# Altium integrated library ST Microcontroller 8-Bit.IntLib: 1326 symbols (part 3 of 45)
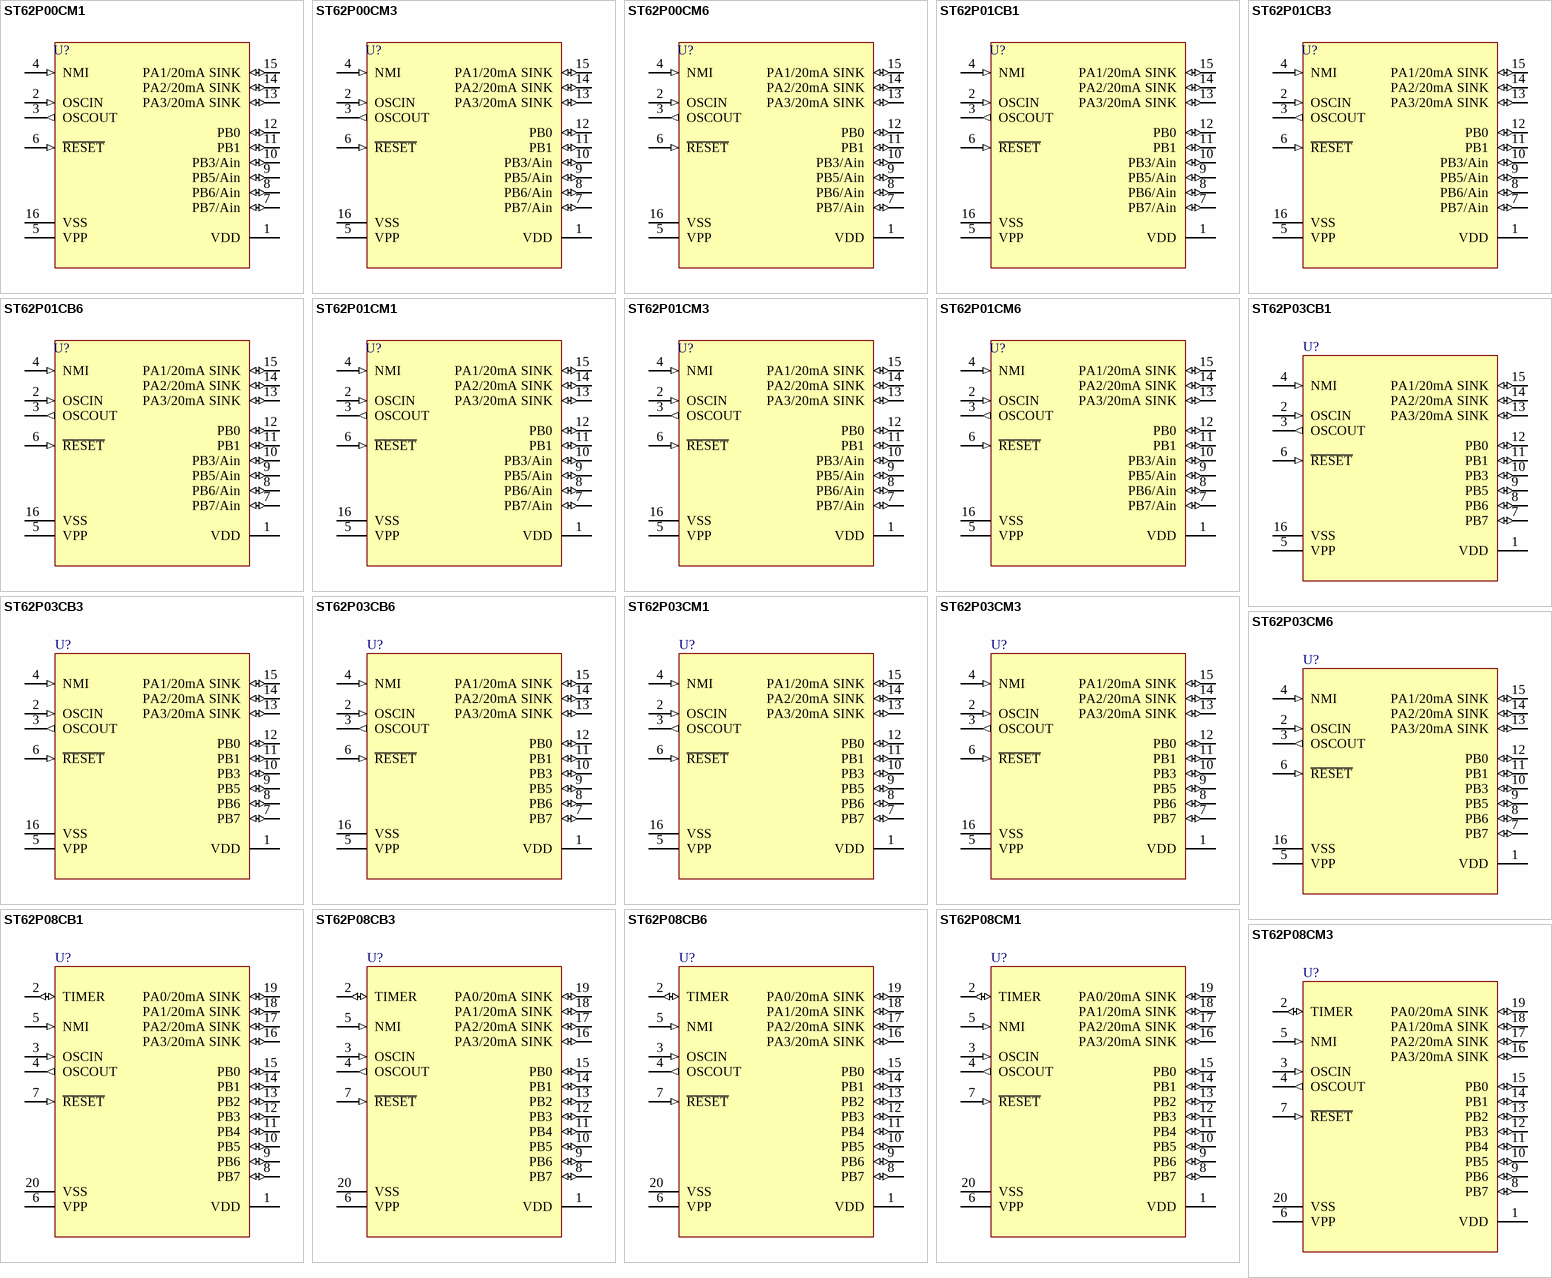
[diagram p169: symbols ST62P00CM1 to ST62P08CM3]

## ST62P01CB6
designator U?
8-Bit FASTROM MCU with A/D Converter, Two Timers, Oscillator Safeguard and Safe Reset, 16-Pin PDIP, Industrial; Published: 26-May-2004; LatestRevisionDate: 06-Jun-2005; LatestRevisionNote: Stylized 3D Model Added.; DatasheetVersion: rev3.3, Oct-2003; PackageVersion: Dec-2003; PackageReference: PDIP16; Publisher: Altium Limited; PackageDescription: DIP; 16 Leads; Row Spacing 7.62 mm; Pitch 2.54 mm; ComponentLink1Description: Manufacturer Link; ComponentLink1URL: http://www.st.com/; ComponentLink2Description: Datasheet; ComponentLink2URL: http://www.st.com/stonline/products/literature/ds/4563/st6201c.pdf
footprint PDIP16 (DIP; 16 Leads; Row Spacing 7.62 mm; Pitch 2.54 mm)
3D model PDIP16 (DIP; 16 Leads; Row Spacing 7.62 mm; Pitch 2.54 mm)
pins: 1 VDD (power), 2 OSCIN (in), 3 OSCOUT (out), 4 NMI (in), 5 VPP (power), 6 ~{RESET} (in), 7 PB7/Ain (io), 8 PB6/Ain (io), 9 PB5/Ain (io), 10 PB3/Ain (io), 11 PB1 (io), 12 PB0 (io), 13 PA3/20mA SINK (io), 14 PA2/20mA SINK (io), 15 PA1/20mA SINK (io), 16 VSS (power)

## ST62P01CM1
designator U?
8-Bit FASTROM MCU with A/D Converter, Two Timers, Oscillator Safeguard and Safe Reset, 16-Pin SOIC, Standard; Published: 26-May-2004; LatestRevisionDate: 13-Apr-2006; LatestRevisionNote: IPC-7351 Footprint Added.; DatasheetVersion: rev3.3, Oct-2003; PackageVersion: Apr-1998; PackageReference: SO16W; Publisher: Altium Limited; PackageDescription: 16-Pin Small Outline Integrated Circuit 1.27 mm Pitch; Code_JEDEC: MS-013-AA; Code_IPC: SOIC127P1030-16; ComponentLink1Description: Manufacturer Link; ComponentLink1URL: http://www.st.com/; ComponentLink2Description: Datasheet; ComponentLink2URL: http://www.st.com/stonline/products/literature/ds/4563/st6201c.pdf
footprint SO16W_N (SOIC, 16-Leads, Body 10.3x7.5mm, Pitch 1.27mm, IPC Medium Density)
footprint SO16W_L (SOIC, 16-Leads, Body 10.3x7.5mm, Pitch 1.27mm, IPC High Density)
footprint SO16W_M (SOIC, 16-Leads, Body 10.3x7.5mm, Pitch 1.27mm, IPC Low Density)
3D model SO16W (16-Pin Small Outline Integrated Circuit 1.27 mm Pitch)
pins: 1 VDD (power), 2 OSCIN (in), 3 OSCOUT (out), 4 NMI (in), 5 VPP (power), 6 ~{RESET} (in), 7 PB7/Ain (io), 8 PB6/Ain (io), 9 PB5/Ain (io), 10 PB3/Ain (io), 11 PB1 (io), 12 PB0 (io), 13 PA3/20mA SINK (io), 14 PA2/20mA SINK (io), 15 PA1/20mA SINK (io), 16 VSS (power)

## ST62P01CM3
designator U?
8-Bit FASTROM MCU with A/D Converter, Two Timers, Oscillator Safeguard and Safe Reset, 16-Pin SOIC, Automotive; Published: 26-May-2004; LatestRevisionDate: 13-Apr-2006; LatestRevisionNote: IPC-7351 Footprint Added.; DatasheetVersion: rev3.3, Oct-2003; PackageVersion: Apr-1998; PackageReference: SO16W; Publisher: Altium Limited; PackageDescription: 16-Pin Small Outline Integrated Circuit 1.27 mm Pitch; Code_JEDEC: MS-013-AA; Code_IPC: SOIC127P1030-16; ComponentLink1Description: Manufacturer Link; ComponentLink1URL: http://www.st.com/; ComponentLink2Description: Datasheet; ComponentLink2URL: http://www.st.com/stonline/products/literature/ds/4563/st6201c.pdf
footprint SO16W_N (SOIC, 16-Leads, Body 10.3x7.5mm, Pitch 1.27mm, IPC Medium Density)
footprint SO16W_L (SOIC, 16-Leads, Body 10.3x7.5mm, Pitch 1.27mm, IPC High Density)
footprint SO16W_M (SOIC, 16-Leads, Body 10.3x7.5mm, Pitch 1.27mm, IPC Low Density)
3D model SO16W (16-Pin Small Outline Integrated Circuit 1.27 mm Pitch)
pins: 1 VDD (power), 2 OSCIN (in), 3 OSCOUT (out), 4 NMI (in), 5 VPP (power), 6 ~{RESET} (in), 7 PB7/Ain (io), 8 PB6/Ain (io), 9 PB5/Ain (io), 10 PB3/Ain (io), 11 PB1 (io), 12 PB0 (io), 13 PA3/20mA SINK (io), 14 PA2/20mA SINK (io), 15 PA1/20mA SINK (io), 16 VSS (power)

## ST62P01CM6
designator U?
8-Bit FASTROM MCU with A/D Converter, Two Timers, Oscillator Safeguard and Safe Reset, 16-Pin SOIC, Industrial; Published: 26-May-2004; LatestRevisionDate: 13-Apr-2006; LatestRevisionNote: IPC-7351 Footprint Added.; DatasheetVersion: rev3.3, Oct-2003; PackageVersion: Apr-1998; PackageReference: SO16W; Publisher: Altium Limited; PackageDescription: 16-Pin Small Outline Integrated Circuit 1.27 mm Pitch; Code_JEDEC: MS-013-AA; Code_IPC: SOIC127P1030-16; ComponentLink1Description: Manufacturer Link; ComponentLink1URL: http://www.st.com/; ComponentLink2Description: Datasheet; ComponentLink2URL: http://www.st.com/stonline/products/literature/ds/4563/st6201c.pdf
footprint SO16W_N (SOIC, 16-Leads, Body 10.3x7.5mm, Pitch 1.27mm, IPC Medium Density)
footprint SO16W_L (SOIC, 16-Leads, Body 10.3x7.5mm, Pitch 1.27mm, IPC High Density)
footprint SO16W_M (SOIC, 16-Leads, Body 10.3x7.5mm, Pitch 1.27mm, IPC Low Density)
3D model SO16W (16-Pin Small Outline Integrated Circuit 1.27 mm Pitch)
pins: 1 VDD (power), 2 OSCIN (in), 3 OSCOUT (out), 4 NMI (in), 5 VPP (power), 6 ~{RESET} (in), 7 PB7/Ain (io), 8 PB6/Ain (io), 9 PB5/Ain (io), 10 PB3/Ain (io), 11 PB1 (io), 12 PB0 (io), 13 PA3/20mA SINK (io), 14 PA2/20mA SINK (io), 15 PA1/20mA SINK (io), 16 VSS (power)

## ST62P03CB1
designator U?
8-Bit FASTROM MCU with A/D Converter, Two Timers, Oscillator Safeguard and Safe Reset, 16-Pin PDIP, Standard; Published: 26-May-2004; LatestRevisionDate: 06-Jun-2005; LatestRevisionNote: Stylized 3D Model Added.; DatasheetVersion: rev3.3, Oct-2003; PackageVersion: Dec-2003; PackageReference: PDIP16; Publisher: Altium Limited; PackageDescription: DIP; 16 Leads; Row Spacing 7.62 mm; Pitch 2.54 mm; ComponentLink1Description: Manufacturer Link; ComponentLink1URL: http://www.st.com/; ComponentLink2Description: Datasheet; ComponentLink2URL: http://www.st.com/stonline/products/literature/ds/4563/st6203c.pdf
footprint PDIP16 (DIP; 16 Leads; Row Spacing 7.62 mm; Pitch 2.54 mm)
3D model PDIP16 (DIP; 16 Leads; Row Spacing 7.62 mm; Pitch 2.54 mm)
pins: 1 VDD (power), 2 OSCIN (in), 3 OSCOUT (out), 4 NMI (in), 5 VPP (power), 6 ~{RESET} (in), 7 PB7 (io), 8 PB6 (io), 9 PB5 (io), 10 PB3 (io), 11 PB1 (io), 12 PB0 (io), 13 PA3/20mA SINK (io), 14 PA2/20mA SINK (io), 15 PA1/20mA SINK (io), 16 VSS (power)

## ST62P03CB3
designator U?
8-Bit FASTROM MCU with A/D Converter, Two Timers, Oscillator Safeguard and Safe Reset, 16-Pin PDIP, Automotive; Published: 26-May-2004; LatestRevisionDate: 06-Jun-2005; LatestRevisionNote: Stylized 3D Model Added.; DatasheetVersion: rev3.3, Oct-2003; PackageVersion: Dec-2003; PackageReference: PDIP16; Publisher: Altium Limited; PackageDescription: DIP; 16 Leads; Row Spacing 7.62 mm; Pitch 2.54 mm; ComponentLink1Description: Manufacturer Link; ComponentLink1URL: http://www.st.com/; ComponentLink2Description: Datasheet; ComponentLink2URL: http://www.st.com/stonline/products/literature/ds/4563/st6203c.pdf
footprint PDIP16 (DIP; 16 Leads; Row Spacing 7.62 mm; Pitch 2.54 mm)
3D model PDIP16 (DIP; 16 Leads; Row Spacing 7.62 mm; Pitch 2.54 mm)
pins: 1 VDD (power), 2 OSCIN (in), 3 OSCOUT (out), 4 NMI (in), 5 VPP (power), 6 ~{RESET} (in), 7 PB7 (io), 8 PB6 (io), 9 PB5 (io), 10 PB3 (io), 11 PB1 (io), 12 PB0 (io), 13 PA3/20mA SINK (io), 14 PA2/20mA SINK (io), 15 PA1/20mA SINK (io), 16 VSS (power)

## ST62P03CB6
designator U?
8-Bit FASTROM MCU with A/D Converter, Two Timers, Oscillator Safeguard and Safe Reset, 16-Pin PDIP, Industrial; Published: 26-May-2004; LatestRevisionDate: 06-Jun-2005; LatestRevisionNote: Stylized 3D Model Added.; DatasheetVersion: rev3.3, Oct-2003; PackageVersion: Dec-2003; PackageReference: PDIP16; Publisher: Altium Limited; PackageDescription: DIP; 16 Leads; Row Spacing 7.62 mm; Pitch 2.54 mm; ComponentLink1Description: Manufacturer Link; ComponentLink1URL: http://www.st.com/; ComponentLink2Description: Datasheet; ComponentLink2URL: http://www.st.com/stonline/products/literature/ds/4563/st6203c.pdf
footprint PDIP16 (DIP; 16 Leads; Row Spacing 7.62 mm; Pitch 2.54 mm)
3D model PDIP16 (DIP; 16 Leads; Row Spacing 7.62 mm; Pitch 2.54 mm)
pins: 1 VDD (power), 2 OSCIN (in), 3 OSCOUT (out), 4 NMI (in), 5 VPP (power), 6 ~{RESET} (in), 7 PB7 (io), 8 PB6 (io), 9 PB5 (io), 10 PB3 (io), 11 PB1 (io), 12 PB0 (io), 13 PA3/20mA SINK (io), 14 PA2/20mA SINK (io), 15 PA1/20mA SINK (io), 16 VSS (power)

## ST62P03CM1
designator U?
8-Bit FASTROM MCU with A/D Converter, Two Timers, Oscillator Safeguard and Safe Reset, 16-Pin SOIC, Standard; Published: 26-May-2004; LatestRevisionDate: 13-Apr-2006; LatestRevisionNote: IPC-7351 Footprint Added.; DatasheetVersion: rev3.3, Oct-2003; PackageVersion: Apr-1998; PackageReference: SO16W; Publisher: Altium Limited; PackageDescription: 16-Pin Small Outline Integrated Circuit 1.27 mm Pitch; Code_JEDEC: MS-013-AA; Code_IPC: SOIC127P1030-16; ComponentLink1Description: Manufacturer Link; ComponentLink1URL: http://www.st.com/; ComponentLink2Description: Datasheet; ComponentLink2URL: http://www.st.com/stonline/products/literature/ds/4563/st6203c.pdf
footprint SO16W_N (SOIC, 16-Leads, Body 10.3x7.5mm, Pitch 1.27mm, IPC Medium Density)
footprint SO16W_L (SOIC, 16-Leads, Body 10.3x7.5mm, Pitch 1.27mm, IPC High Density)
footprint SO16W_M (SOIC, 16-Leads, Body 10.3x7.5mm, Pitch 1.27mm, IPC Low Density)
3D model SO16W (16-Pin Small Outline Integrated Circuit 1.27 mm Pitch)
pins: 1 VDD (power), 2 OSCIN (in), 3 OSCOUT (out), 4 NMI (in), 5 VPP (power), 6 ~{RESET} (in), 7 PB7 (io), 8 PB6 (io), 9 PB5 (io), 10 PB3 (io), 11 PB1 (io), 12 PB0 (io), 13 PA3/20mA SINK (io), 14 PA2/20mA SINK (io), 15 PA1/20mA SINK (io), 16 VSS (power)

## ST62P03CM3
designator U?
8-Bit FASTROM MCU with A/D Converter, Two Timers, Oscillator Safeguard and Safe Reset, 16-Pin SOIC, Automotive; Published: 26-May-2004; LatestRevisionDate: 13-Apr-2006; LatestRevisionNote: IPC-7351 Footprint Added.; DatasheetVersion: rev3.3, Oct-2003; PackageVersion: Apr-1998; PackageReference: SO16W; Publisher: Altium Limited; PackageDescription: 16-Pin Small Outline Integrated Circuit 1.27 mm Pitch; Code_JEDEC: MS-013-AA; Code_IPC: SOIC127P1030-16; ComponentLink1Description: Manufacturer Link; ComponentLink1URL: http://www.st.com/; ComponentLink2Description: Datasheet; ComponentLink2URL: http://www.st.com/stonline/products/literature/ds/4563/st6203c.pdf
footprint SO16W_N (SOIC, 16-Leads, Body 10.3x7.5mm, Pitch 1.27mm, IPC Medium Density)
footprint SO16W_L (SOIC, 16-Leads, Body 10.3x7.5mm, Pitch 1.27mm, IPC High Density)
footprint SO16W_M (SOIC, 16-Leads, Body 10.3x7.5mm, Pitch 1.27mm, IPC Low Density)
3D model SO16W (16-Pin Small Outline Integrated Circuit 1.27 mm Pitch)
pins: 1 VDD (power), 2 OSCIN (in), 3 OSCOUT (out), 4 NMI (in), 5 VPP (power), 6 ~{RESET} (in), 7 PB7 (io), 8 PB6 (io), 9 PB5 (io), 10 PB3 (io), 11 PB1 (io), 12 PB0 (io), 13 PA3/20mA SINK (io), 14 PA2/20mA SINK (io), 15 PA1/20mA SINK (io), 16 VSS (power)

## ST62P03CM6
designator U?
8-Bit FASTROM MCU with A/D Converter, Two Timers, Oscillator Safeguard and Safe Reset, 16-Pin SOIC, Industrial; Published: 26-May-2004; LatestRevisionDate: 13-Apr-2006; LatestRevisionNote: IPC-7351 Footprint Added.; DatasheetVersion: rev3.3, Oct-2003; PackageVersion: Apr-1998; PackageReference: SO16W; Publisher: Altium Limited; PackageDescription: 16-Pin Small Outline Integrated Circuit 1.27 mm Pitch; Code_JEDEC: MS-013-AA; Code_IPC: SOIC127P1030-16; ComponentLink1Description: Manufacturer Link; ComponentLink1URL: http://www.st.com/; ComponentLink2Description: Datasheet; ComponentLink2URL: http://www.st.com/stonline/products/literature/ds/4563/st6203c.pdf
footprint SO16W_N (SOIC, 16-Leads, Body 10.3x7.5mm, Pitch 1.27mm, IPC Medium Density)
footprint SO16W_L (SOIC, 16-Leads, Body 10.3x7.5mm, Pitch 1.27mm, IPC High Density)
footprint SO16W_M (SOIC, 16-Leads, Body 10.3x7.5mm, Pitch 1.27mm, IPC Low Density)
3D model SO16W (16-Pin Small Outline Integrated Circuit 1.27 mm Pitch)
pins: 1 VDD (power), 2 OSCIN (in), 3 OSCOUT (out), 4 NMI (in), 5 VPP (power), 6 ~{RESET} (in), 7 PB7 (io), 8 PB6 (io), 9 PB5 (io), 10 PB3 (io), 11 PB1 (io), 12 PB0 (io), 13 PA3/20mA SINK (io), 14 PA2/20mA SINK (io), 15 PA1/20mA SINK (io), 16 VSS (power)

## ST62P08CB1
designator U?
8-Bit FASTROM MCU with A/D Converter, Two Timers, Oscillator Safeguard and Safe Reset, 20-Pin PDIP, Standard; Published: 26-May-2004; LatestRevisionDate: 06-Jun-2005; LatestRevisionNote: Stylized 3D Model Added.; DatasheetVersion: rev3.3, Oct-2003; PackageVersion: Jul-2003; PackageReference: PDIP20; Publisher: Altium Limited; PackageDescription: DIP; 20 Leads; Row Spacing 7.62 mm; Pitch 2.54 mm; Code_JEDEC: MS-001-AD; ComponentLink1Description: Manufacturer Link; ComponentLink1URL: http://www.st.com/; ComponentLink2Description: Datasheet; ComponentLink2URL: http://www.st.com/stonline/products/literature/ds/2349/st6208c.pdf
footprint PDIP20 (DIP; 20 Leads; Row Spacing 7.62 mm; Pitch 2.54 mm)
3D model PDIP20 (DIP; 20 Leads; Row Spacing 7.62 mm; Pitch 2.54 mm)
pins: 1 VDD (power), 2 TIMER (io), 3 OSCIN (in), 4 OSCOUT (out), 5 NMI (in), 6 VPP (power), 7 ~{RESET} (in), 8 PB7 (io), 9 PB6 (io), 10 PB5 (io), 11 PB4 (io), 12 PB3 (io), 13 PB2 (io), 14 PB1 (io), 15 PB0 (io), 16 PA3/20mA SINK (io), 17 PA2/20mA SINK (io), 18 PA1/20mA SINK (io), 19 PA0/20mA SINK (io), 20 VSS (power)

## ST62P08CB3
designator U?
8-Bit FASTROM MCU with A/D Converter, Two Timers, Oscillator Safeguard and Safe Reset, 20-Pin PDIP, Automotive; Published: 26-May-2004; LatestRevisionDate: 06-Jun-2005; LatestRevisionNote: Stylized 3D Model Added.; DatasheetVersion: rev3.3, Oct-2003; PackageVersion: Jul-2003; PackageReference: PDIP20; Publisher: Altium Limited; PackageDescription: DIP; 20 Leads; Row Spacing 7.62 mm; Pitch 2.54 mm; Code_JEDEC: MS-001-AD; ComponentLink1Description: Manufacturer Link; ComponentLink1URL: http://www.st.com/; ComponentLink2Description: Datasheet; ComponentLink2URL: http://www.st.com/stonline/products/literature/ds/2349/st6208c.pdf
footprint PDIP20 (DIP; 20 Leads; Row Spacing 7.62 mm; Pitch 2.54 mm)
3D model PDIP20 (DIP; 20 Leads; Row Spacing 7.62 mm; Pitch 2.54 mm)
pins: 1 VDD (power), 2 TIMER (io), 3 OSCIN (in), 4 OSCOUT (out), 5 NMI (in), 6 VPP (power), 7 ~{RESET} (in), 8 PB7 (io), 9 PB6 (io), 10 PB5 (io), 11 PB4 (io), 12 PB3 (io), 13 PB2 (io), 14 PB1 (io), 15 PB0 (io), 16 PA3/20mA SINK (io), 17 PA2/20mA SINK (io), 18 PA1/20mA SINK (io), 19 PA0/20mA SINK (io), 20 VSS (power)

## ST62P08CB6
designator U?
8-Bit FASTROM MCU with A/D Converter, Two Timers, Oscillator Safeguard and Safe Reset, 20-Pin PDIP, Industrial; Published: 26-May-2004; LatestRevisionDate: 06-Jun-2005; LatestRevisionNote: Stylized 3D Model Added.; DatasheetVersion: rev3.3, Oct-2003; PackageVersion: Jul-2003; PackageReference: PDIP20; Publisher: Altium Limited; PackageDescription: DIP; 20 Leads; Row Spacing 7.62 mm; Pitch 2.54 mm; Code_JEDEC: MS-001-AD; ComponentLink1Description: Manufacturer Link; ComponentLink1URL: http://www.st.com/; ComponentLink2Description: Datasheet; ComponentLink2URL: http://www.st.com/stonline/products/literature/ds/2349/st6208c.pdf
footprint PDIP20 (DIP; 20 Leads; Row Spacing 7.62 mm; Pitch 2.54 mm)
3D model PDIP20 (DIP; 20 Leads; Row Spacing 7.62 mm; Pitch 2.54 mm)
pins: 1 VDD (power), 2 TIMER (io), 3 OSCIN (in), 4 OSCOUT (out), 5 NMI (in), 6 VPP (power), 7 ~{RESET} (in), 8 PB7 (io), 9 PB6 (io), 10 PB5 (io), 11 PB4 (io), 12 PB3 (io), 13 PB2 (io), 14 PB1 (io), 15 PB0 (io), 16 PA3/20mA SINK (io), 17 PA2/20mA SINK (io), 18 PA1/20mA SINK (io), 19 PA0/20mA SINK (io), 20 VSS (power)

## ST62P08CM1
designator U?
8-Bit FASTROM MCU with A/D Converter, Two Timers, Oscillator Safeguard and Safe Reset, 20-Pin SOIC, Standard; Published: 26-May-2004; LatestRevisionDate: 13-Apr-2006; LatestRevisionNote: IPC-7351 Footprint Added.; DatasheetVersion: rev3.3, Oct-2003; PackageVersion: Jul-2001; PackageReference: SO20; Publisher: Altium Limited; PackageDescription: 20-Pin Plastic Small Outline Integrated Circuit 1.27 mm Pitch; Code_JEDEC: MS-013-AC; Code_IPC: SOIC127P1030-20; ComponentLink1Description: Manufacturer Link; ComponentLink1URL: http://www.st.com/; ComponentLink2Description: Datasheet; ComponentLink2URL: http://www.st.com/stonline/products/literature/ds/2349/st6208c.pdf
footprint SO20_N (SOIC, 20-Leads, Body 12.8x7.5mm, Pitch 1.27mm, IPC Medium Density)
footprint SO20_L (SOIC, 20-Leads, Body 12.8x7.5mm, Pitch 1.27mm, IPC High Density)
footprint SO20_M (SOIC, 20-Leads, Body 12.8x7.5mm, Pitch 1.27mm, IPC Low Density)
3D model SO20 (20-Pin Plastic Small Outline Integrated Circuit 1.27 mm Pitch)
pins: 1 VDD (power), 2 TIMER (io), 3 OSCIN (in), 4 OSCOUT (out), 5 NMI (in), 6 VPP (power), 7 ~{RESET} (in), 8 PB7 (io), 9 PB6 (io), 10 PB5 (io), 11 PB4 (io), 12 PB3 (io), 13 PB2 (io), 14 PB1 (io), 15 PB0 (io), 16 PA3/20mA SINK (io), 17 PA2/20mA SINK (io), 18 PA1/20mA SINK (io), 19 PA0/20mA SINK (io), 20 VSS (power)

## ST62P08CM3
designator U?
8-Bit FASTROM MCU with A/D Converter, Two Timers, Oscillator Safeguard and Safe Reset, 20-Pin SOIC, Automotive; Published: 26-May-2004; LatestRevisionDate: 13-Apr-2006; LatestRevisionNote: IPC-7351 Footprint Added.; DatasheetVersion: rev3.3, Oct-2003; PackageVersion: Jul-2001; PackageReference: SO20; Publisher: Altium Limited; PackageDescription: 20-Pin Plastic Small Outline Integrated Circuit 1.27 mm Pitch; Code_JEDEC: MS-013-AC; Code_IPC: SOIC127P1030-20; ComponentLink1Description: Manufacturer Link; ComponentLink1URL: http://www.st.com/; ComponentLink2Description: Datasheet; ComponentLink2URL: http://www.st.com/stonline/products/literature/ds/2349/st6208c.pdf
footprint SO20_N (SOIC, 20-Leads, Body 12.8x7.5mm, Pitch 1.27mm, IPC Medium Density)
footprint SO20_L (SOIC, 20-Leads, Body 12.8x7.5mm, Pitch 1.27mm, IPC High Density)
footprint SO20_M (SOIC, 20-Leads, Body 12.8x7.5mm, Pitch 1.27mm, IPC Low Density)
3D model SO20 (20-Pin Plastic Small Outline Integrated Circuit 1.27 mm Pitch)
pins: 1 VDD (power), 2 TIMER (io), 3 OSCIN (in), 4 OSCOUT (out), 5 NMI (in), 6 VPP (power), 7 ~{RESET} (in), 8 PB7 (io), 9 PB6 (io), 10 PB5 (io), 11 PB4 (io), 12 PB3 (io), 13 PB2 (io), 14 PB1 (io), 15 PB0 (io), 16 PA3/20mA SINK (io), 17 PA2/20mA SINK (io), 18 PA1/20mA SINK (io), 19 PA0/20mA SINK (io), 20 VSS (power)

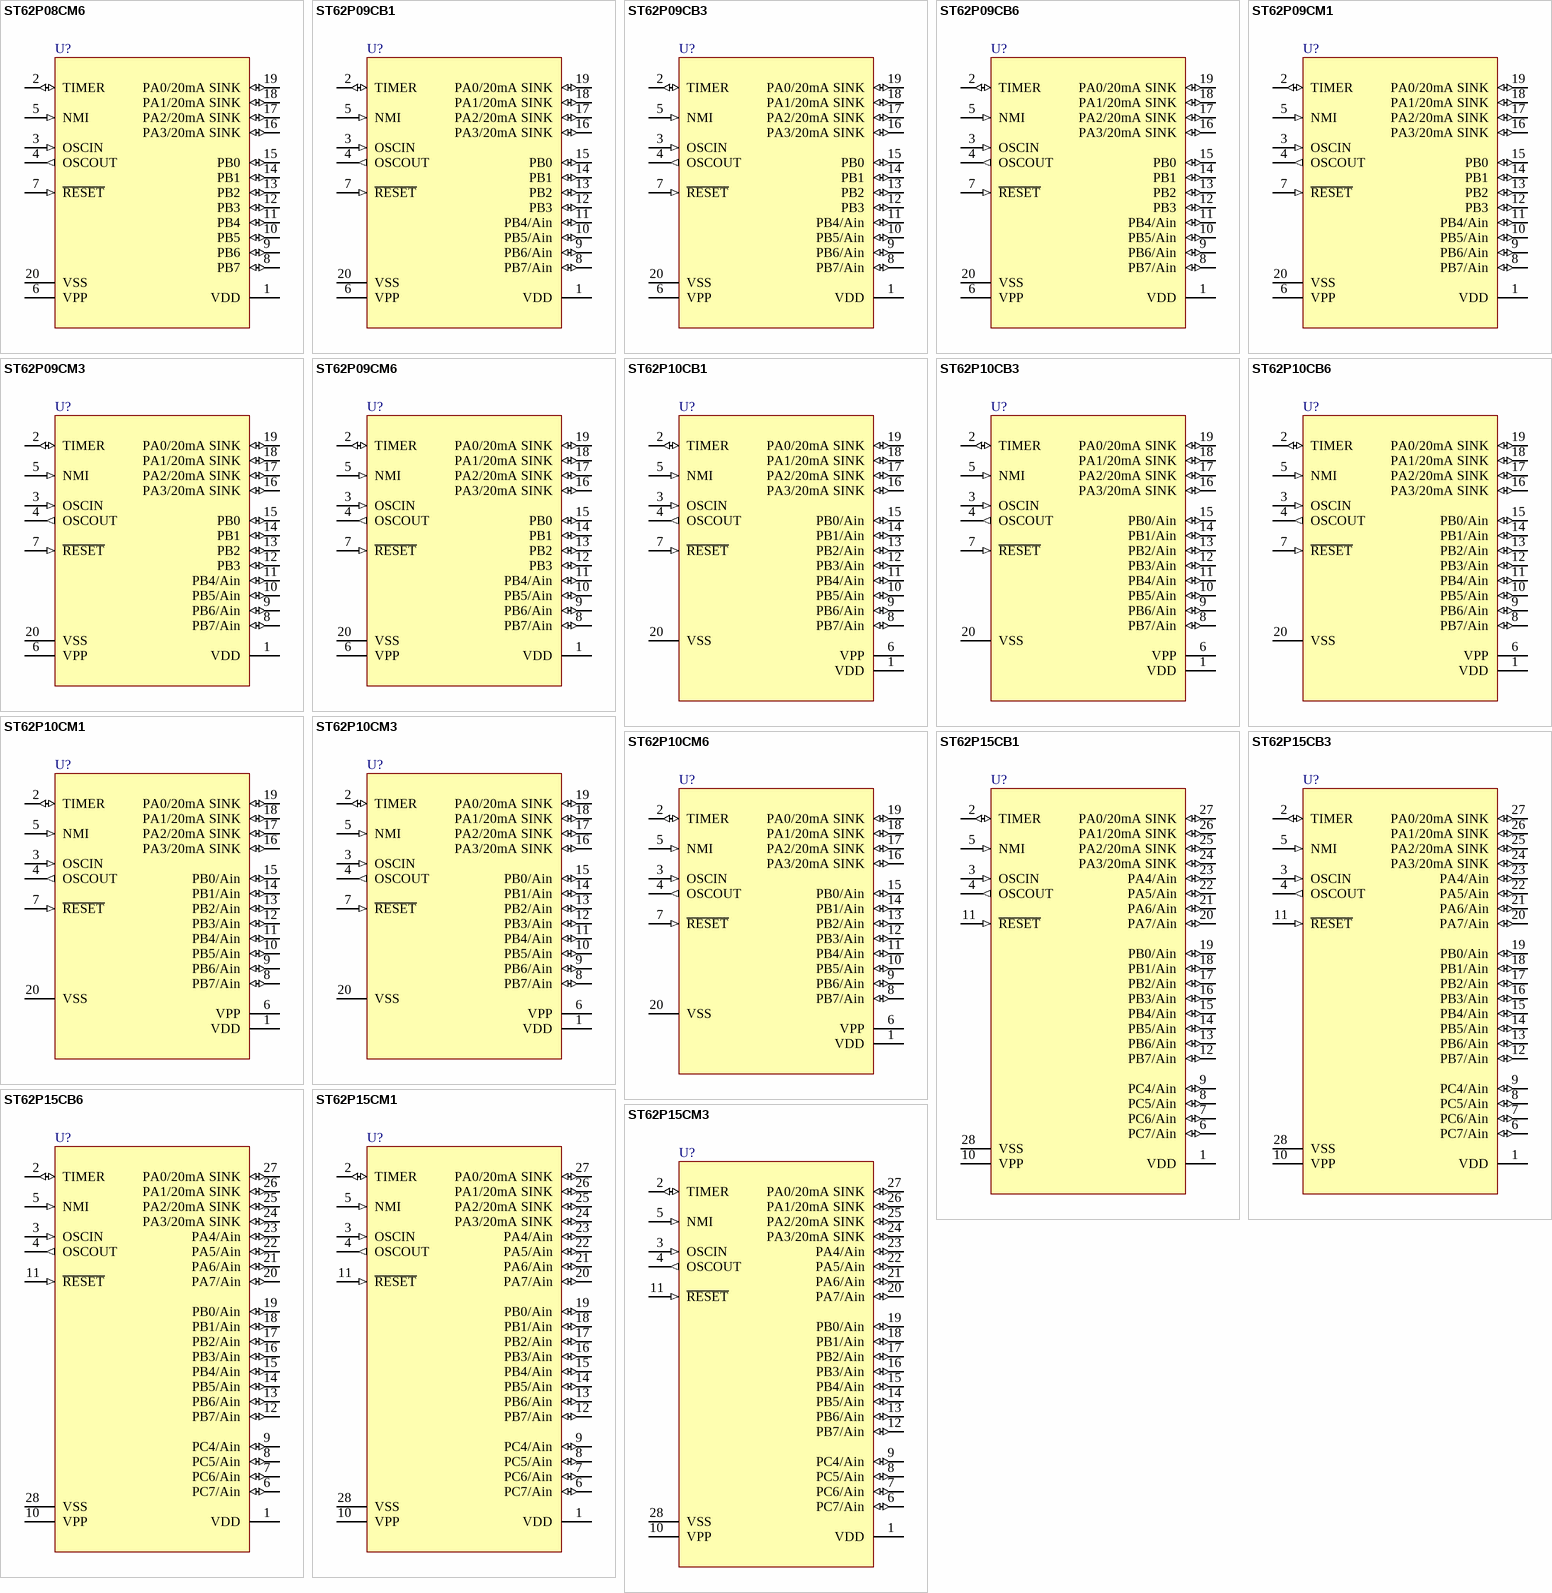
[diagram p7: symbols ST62P08CM6 to ST62P15CM3]

## ST62P08CM6
designator U?
8-Bit FASTROM MCU with A/D Converter, Two Timers, Oscillator Safeguard and Safe Reset, 20-Pin SOIC, Industrial; Published: 26-May-2004; LatestRevisionDate: 13-Apr-2006; LatestRevisionNote: IPC-7351 Footprint Added.; DatasheetVersion: rev3.3, Oct-2003; PackageVersion: Jul-2001; PackageReference: SO20; Publisher: Altium Limited; PackageDescription: 20-Pin Plastic Small Outline Integrated Circuit 1.27 mm Pitch; Code_JEDEC: MS-013-AC; Code_IPC: SOIC127P1030-20; ComponentLink1Description: Manufacturer Link; ComponentLink1URL: http://www.st.com/; ComponentLink2Description: Datasheet; ComponentLink2URL: http://www.st.com/stonline/products/literature/ds/2349/st6208c.pdf
footprint SO20_N (SOIC, 20-Leads, Body 12.8x7.5mm, Pitch 1.27mm, IPC Medium Density)
footprint SO20_L (SOIC, 20-Leads, Body 12.8x7.5mm, Pitch 1.27mm, IPC High Density)
footprint SO20_M (SOIC, 20-Leads, Body 12.8x7.5mm, Pitch 1.27mm, IPC Low Density)
3D model SO20 (20-Pin Plastic Small Outline Integrated Circuit 1.27 mm Pitch)
pins: 1 VDD (power), 2 TIMER (io), 3 OSCIN (in), 4 OSCOUT (out), 5 NMI (in), 6 VPP (power), 7 ~{RESET} (in), 8 PB7 (io), 9 PB6 (io), 10 PB5 (io), 11 PB4 (io), 12 PB3 (io), 13 PB2 (io), 14 PB1 (io), 15 PB0 (io), 16 PA3/20mA SINK (io), 17 PA2/20mA SINK (io), 18 PA1/20mA SINK (io), 19 PA0/20mA SINK (io), 20 VSS (power)

## ST62P09CB1
designator U?
8-Bit FASTROM MCU with A/D Converter, Two Timers, Oscillator Safeguard and Safe Reset, 20-Pin PDIP, Standard; Published: 26-May-2004; LatestRevisionDate: 06-Jun-2005; LatestRevisionNote: Stylized 3D Model Added.; DatasheetVersion: rev3.3, Oct-2003; PackageVersion: Jul-2003; PackageReference: PDIP20; Publisher: Altium Limited; PackageDescription: DIP; 20 Leads; Row Spacing 7.62 mm; Pitch 2.54 mm; Code_JEDEC: MS-001-AD; ComponentLink1Description: Manufacturer Link; ComponentLink1URL: http://www.st.com/; ComponentLink2Description: Datasheet; ComponentLink2URL: http://www.st.com/stonline/products/literature/ds/2349/st6209c.pdf
footprint PDIP20 (DIP; 20 Leads; Row Spacing 7.62 mm; Pitch 2.54 mm)
3D model PDIP20 (DIP; 20 Leads; Row Spacing 7.62 mm; Pitch 2.54 mm)
pins: 1 VDD (power), 2 TIMER (io), 3 OSCIN (in), 4 OSCOUT (out), 5 NMI (in), 6 VPP (power), 7 ~{RESET} (in), 8 PB7/Ain (io), 9 PB6/Ain (io), 10 PB5/Ain (io), 11 PB4/Ain (io), 12 PB3 (io), 13 PB2 (io), 14 PB1 (io), 15 PB0 (io), 16 PA3/20mA SINK (io), 17 PA2/20mA SINK (io), 18 PA1/20mA SINK (io), 19 PA0/20mA SINK (io), 20 VSS (power)

## ST62P09CB3
designator U?
8-Bit FASTROM MCU with A/D Converter, Two Timers, Oscillator Safeguard and Safe Reset, 20-Pin PDIP, Automotive; Published: 26-May-2004; LatestRevisionDate: 06-Jun-2005; LatestRevisionNote: Stylized 3D Model Added.; DatasheetVersion: rev3.3, Oct-2003; PackageVersion: Jul-2003; PackageReference: PDIP20; Publisher: Altium Limited; PackageDescription: DIP; 20 Leads; Row Spacing 7.62 mm; Pitch 2.54 mm; Code_JEDEC: MS-001-AD; ComponentLink1Description: Manufacturer Link; ComponentLink1URL: http://www.st.com/; ComponentLink2Description: Datasheet; ComponentLink2URL: http://www.st.com/stonline/products/literature/ds/2349/st6209c.pdf
footprint PDIP20 (DIP; 20 Leads; Row Spacing 7.62 mm; Pitch 2.54 mm)
3D model PDIP20 (DIP; 20 Leads; Row Spacing 7.62 mm; Pitch 2.54 mm)
pins: 1 VDD (power), 2 TIMER (io), 3 OSCIN (in), 4 OSCOUT (out), 5 NMI (in), 6 VPP (power), 7 ~{RESET} (in), 8 PB7/Ain (io), 9 PB6/Ain (io), 10 PB5/Ain (io), 11 PB4/Ain (io), 12 PB3 (io), 13 PB2 (io), 14 PB1 (io), 15 PB0 (io), 16 PA3/20mA SINK (io), 17 PA2/20mA SINK (io), 18 PA1/20mA SINK (io), 19 PA0/20mA SINK (io), 20 VSS (power)

## ST62P09CB6
designator U?
8-Bit FASTROM MCU with A/D Converter, Two Timers, Oscillator Safeguard and Safe Reset, 20-Pin PDIP, Industrial; Published: 26-May-2004; LatestRevisionDate: 06-Jun-2005; LatestRevisionNote: Stylized 3D Model Added.; DatasheetVersion: rev3.3, Oct-2003; PackageVersion: Jul-2003; PackageReference: PDIP20; Publisher: Altium Limited; PackageDescription: DIP; 20 Leads; Row Spacing 7.62 mm; Pitch 2.54 mm; Code_JEDEC: MS-001-AD; ComponentLink1Description: Manufacturer Link; ComponentLink1URL: http://www.st.com/; ComponentLink2Description: Datasheet; ComponentLink2URL: http://www.st.com/stonline/products/literature/ds/2349/st6209c.pdf
footprint PDIP20 (DIP; 20 Leads; Row Spacing 7.62 mm; Pitch 2.54 mm)
3D model PDIP20 (DIP; 20 Leads; Row Spacing 7.62 mm; Pitch 2.54 mm)
pins: 1 VDD (power), 2 TIMER (io), 3 OSCIN (in), 4 OSCOUT (out), 5 NMI (in), 6 VPP (power), 7 ~{RESET} (in), 8 PB7/Ain (io), 9 PB6/Ain (io), 10 PB5/Ain (io), 11 PB4/Ain (io), 12 PB3 (io), 13 PB2 (io), 14 PB1 (io), 15 PB0 (io), 16 PA3/20mA SINK (io), 17 PA2/20mA SINK (io), 18 PA1/20mA SINK (io), 19 PA0/20mA SINK (io), 20 VSS (power)

## ST62P09CM1
designator U?
8-Bit FASTROM MCU with A/D Converter, Two Timers, Oscillator Safeguard and Safe Reset, 20-Pin SOIC, Standard; Published: 26-May-2004; LatestRevisionDate: 13-Apr-2006; LatestRevisionNote: IPC-7351 Footprint Added.; DatasheetVersion: rev3.3, Oct-2003; PackageVersion: Jul-2001; PackageReference: SO20; Publisher: Altium Limited; PackageDescription: 20-Pin Plastic Small Outline Integrated Circuit 1.27 mm Pitch; Code_JEDEC: MS-013-AC; Code_IPC: SOIC127P1030-20; ComponentLink1Description: Manufacturer Link; ComponentLink1URL: http://www.st.com/; ComponentLink2Description: Datasheet; ComponentLink2URL: http://www.st.com/stonline/products/literature/ds/2349/st6209c.pdf
footprint SO20_N (SOIC, 20-Leads, Body 12.8x7.5mm, Pitch 1.27mm, IPC Medium Density)
footprint SO20_L (SOIC, 20-Leads, Body 12.8x7.5mm, Pitch 1.27mm, IPC High Density)
footprint SO20_M (SOIC, 20-Leads, Body 12.8x7.5mm, Pitch 1.27mm, IPC Low Density)
3D model SO20 (20-Pin Plastic Small Outline Integrated Circuit 1.27 mm Pitch)
pins: 1 VDD (power), 2 TIMER (io), 3 OSCIN (in), 4 OSCOUT (out), 5 NMI (in), 6 VPP (power), 7 ~{RESET} (in), 8 PB7/Ain (io), 9 PB6/Ain (io), 10 PB5/Ain (io), 11 PB4/Ain (io), 12 PB3 (io), 13 PB2 (io), 14 PB1 (io), 15 PB0 (io), 16 PA3/20mA SINK (io), 17 PA2/20mA SINK (io), 18 PA1/20mA SINK (io), 19 PA0/20mA SINK (io), 20 VSS (power)

## ST62P09CM3
designator U?
8-Bit FASTROM MCU with A/D Converter, Two Timers, Oscillator Safeguard and Safe Reset, 20-Pin SOIC, Automotive; Published: 26-May-2004; LatestRevisionDate: 13-Apr-2006; LatestRevisionNote: IPC-7351 Footprint Added.; DatasheetVersion: rev3.3, Oct-2003; PackageVersion: Jul-2001; PackageReference: SO20; Publisher: Altium Limited; PackageDescription: 20-Pin Plastic Small Outline Integrated Circuit 1.27 mm Pitch; Code_JEDEC: MS-013-AC; Code_IPC: SOIC127P1030-20; ComponentLink1Description: Manufacturer Link; ComponentLink1URL: http://www.st.com/; ComponentLink2Description: Datasheet; ComponentLink2URL: http://www.st.com/stonline/products/literature/ds/2349/st6209c.pdf
footprint SO20_N (SOIC, 20-Leads, Body 12.8x7.5mm, Pitch 1.27mm, IPC Medium Density)
footprint SO20_L (SOIC, 20-Leads, Body 12.8x7.5mm, Pitch 1.27mm, IPC High Density)
footprint SO20_M (SOIC, 20-Leads, Body 12.8x7.5mm, Pitch 1.27mm, IPC Low Density)
3D model SO20 (20-Pin Plastic Small Outline Integrated Circuit 1.27 mm Pitch)
pins: 1 VDD (power), 2 TIMER (io), 3 OSCIN (in), 4 OSCOUT (out), 5 NMI (in), 6 VPP (power), 7 ~{RESET} (in), 8 PB7/Ain (io), 9 PB6/Ain (io), 10 PB5/Ain (io), 11 PB4/Ain (io), 12 PB3 (io), 13 PB2 (io), 14 PB1 (io), 15 PB0 (io), 16 PA3/20mA SINK (io), 17 PA2/20mA SINK (io), 18 PA1/20mA SINK (io), 19 PA0/20mA SINK (io), 20 VSS (power)

## ST62P09CM6
designator U?
8-Bit FASTROM MCU with A/D Converter, Two Timers, Oscillator Safeguard and Safe Reset, 20-Pin SOIC, Industrial; Published: 26-May-2004; LatestRevisionDate: 13-Apr-2006; LatestRevisionNote: IPC-7351 Footprint Added.; DatasheetVersion: rev3.3, Oct-2003; PackageVersion: Jul-2001; PackageReference: SO20; Publisher: Altium Limited; PackageDescription: 20-Pin Plastic Small Outline Integrated Circuit 1.27 mm Pitch; Code_JEDEC: MS-013-AC; Code_IPC: SOIC127P1030-20; ComponentLink1Description: Manufacturer Link; ComponentLink1URL: http://www.st.com/; ComponentLink2Description: Datasheet; ComponentLink2URL: http://www.st.com/stonline/products/literature/ds/2349/st6209c.pdf
footprint SO20_N (SOIC, 20-Leads, Body 12.8x7.5mm, Pitch 1.27mm, IPC Medium Density)
footprint SO20_L (SOIC, 20-Leads, Body 12.8x7.5mm, Pitch 1.27mm, IPC High Density)
footprint SO20_M (SOIC, 20-Leads, Body 12.8x7.5mm, Pitch 1.27mm, IPC Low Density)
3D model SO20 (20-Pin Plastic Small Outline Integrated Circuit 1.27 mm Pitch)
pins: 1 VDD (power), 2 TIMER (io), 3 OSCIN (in), 4 OSCOUT (out), 5 NMI (in), 6 VPP (power), 7 ~{RESET} (in), 8 PB7/Ain (io), 9 PB6/Ain (io), 10 PB5/Ain (io), 11 PB4/Ain (io), 12 PB3 (io), 13 PB2 (io), 14 PB1 (io), 15 PB0 (io), 16 PA3/20mA SINK (io), 17 PA2/20mA SINK (io), 18 PA1/20mA SINK (io), 19 PA0/20mA SINK (io), 20 VSS (power)

## ST62P10CB1
designator U?
8-Bit FASTROM MCU with A/D Converter, Two Timers, Oscillator Safeguard and Safe Reset, 20-Pin PDIP, Standard; Published: 26-May-2004; LatestRevisionDate: 06-Jun-2005; LatestRevisionNote: Stylized 3D Model Added.; DatasheetVersion: rev3.3, Oct-2003; PackageVersion: Jul-2003; PackageReference: PDIP20; Publisher: Altium Limited; PackageDescription: DIP; 20 Leads; Row Spacing 7.62 mm; Pitch 2.54 mm; Code_JEDEC: MS-001-AD; ComponentLink1Description: Manufacturer Link; ComponentLink1URL: http://www.st.com/; ComponentLink2Description: Datasheet; ComponentLink2URL: http://www.st.com/stonline/products/literature/ds/2349/st6210c.pdf
footprint PDIP20 (DIP; 20 Leads; Row Spacing 7.62 mm; Pitch 2.54 mm)
3D model PDIP20 (DIP; 20 Leads; Row Spacing 7.62 mm; Pitch 2.54 mm)
pins: 1 VDD (power), 2 TIMER (io), 3 OSCIN (in), 4 OSCOUT (out), 5 NMI (in), 6 VPP (power), 7 ~{RESET} (in), 8 PB7/Ain (io), 9 PB6/Ain (io), 10 PB5/Ain (io), 11 PB4/Ain (io), 12 PB3/Ain (io), 13 PB2/Ain (io), 14 PB1/Ain (io), 15 PB0/Ain (io), 16 PA3/20mA SINK (io), 17 PA2/20mA SINK (io), 18 PA1/20mA SINK (io), 19 PA0/20mA SINK (io), 20 VSS (power)

## ST62P10CB3
designator U?
8-Bit FASTROM MCU with A/D Converter, Two Timers, Oscillator Safeguard and Safe Reset, 20-Pin PDIP, Automotive; Published: 26-May-2004; LatestRevisionDate: 06-Jun-2005; LatestRevisionNote: Stylized 3D Model Added.; DatasheetVersion: rev3.3, Oct-2003; PackageVersion: Jul-2003; PackageReference: PDIP20; Publisher: Altium Limited; PackageDescription: DIP; 20 Leads; Row Spacing 7.62 mm; Pitch 2.54 mm; Code_JEDEC: MS-001-AD; ComponentLink1Description: Manufacturer Link; ComponentLink1URL: http://www.st.com/; ComponentLink2Description: Datasheet; ComponentLink2URL: http://www.st.com/stonline/products/literature/ds/2349/st6210c.pdf
footprint PDIP20 (DIP; 20 Leads; Row Spacing 7.62 mm; Pitch 2.54 mm)
3D model PDIP20 (DIP; 20 Leads; Row Spacing 7.62 mm; Pitch 2.54 mm)
pins: 1 VDD (power), 2 TIMER (io), 3 OSCIN (in), 4 OSCOUT (out), 5 NMI (in), 6 VPP (power), 7 ~{RESET} (in), 8 PB7/Ain (io), 9 PB6/Ain (io), 10 PB5/Ain (io), 11 PB4/Ain (io), 12 PB3/Ain (io), 13 PB2/Ain (io), 14 PB1/Ain (io), 15 PB0/Ain (io), 16 PA3/20mA SINK (io), 17 PA2/20mA SINK (io), 18 PA1/20mA SINK (io), 19 PA0/20mA SINK (io), 20 VSS (power)

## ST62P10CB6
designator U?
8-Bit FASTROM MCU with A/D Converter, Two Timers, Oscillator Safeguard and Safe Reset, 20-Pin PDIP, Industrial; Published: 26-May-2004; LatestRevisionDate: 06-Jun-2005; LatestRevisionNote: Stylized 3D Model Added.; DatasheetVersion: rev3.3, Oct-2003; PackageVersion: Jul-2003; PackageReference: PDIP20; Publisher: Altium Limited; PackageDescription: DIP; 20 Leads; Row Spacing 7.62 mm; Pitch 2.54 mm; Code_JEDEC: MS-001-AD; ComponentLink1Description: Manufacturer Link; ComponentLink1URL: http://www.st.com/; ComponentLink2Description: Datasheet; ComponentLink2URL: http://www.st.com/stonline/products/literature/ds/2349/st6210c.pdf
footprint PDIP20 (DIP; 20 Leads; Row Spacing 7.62 mm; Pitch 2.54 mm)
3D model PDIP20 (DIP; 20 Leads; Row Spacing 7.62 mm; Pitch 2.54 mm)
pins: 1 VDD (power), 2 TIMER (io), 3 OSCIN (in), 4 OSCOUT (out), 5 NMI (in), 6 VPP (power), 7 ~{RESET} (in), 8 PB7/Ain (io), 9 PB6/Ain (io), 10 PB5/Ain (io), 11 PB4/Ain (io), 12 PB3/Ain (io), 13 PB2/Ain (io), 14 PB1/Ain (io), 15 PB0/Ain (io), 16 PA3/20mA SINK (io), 17 PA2/20mA SINK (io), 18 PA1/20mA SINK (io), 19 PA0/20mA SINK (io), 20 VSS (power)

## ST62P10CM1
designator U?
8-Bit FASTROM MCU with A/D Converter, Two Timers, Oscillator Safeguard and Safe Reset, 20-Pin SOIC, Standard; Published: 26-May-2004; LatestRevisionDate: 13-Apr-2006; LatestRevisionNote: IPC-7351 Footprint Added.; DatasheetVersion: rev3.3, Oct-2003; PackageVersion: Jul-2001; PackageReference: SO20; Publisher: Altium Limited; PackageDescription: 20-Pin Plastic Small Outline Integrated Circuit 1.27 mm Pitch; Code_JEDEC: MS-013-AC; Code_IPC: SOIC127P1030-20; ComponentLink1Description: Manufacturer Link; ComponentLink1URL: http://www.st.com/; ComponentLink2Description: Datasheet; ComponentLink2URL: http://www.st.com/stonline/products/literature/ds/2349/st6210c.pdf
footprint SO20_N (SOIC, 20-Leads, Body 12.8x7.5mm, Pitch 1.27mm, IPC Medium Density)
footprint SO20_L (SOIC, 20-Leads, Body 12.8x7.5mm, Pitch 1.27mm, IPC High Density)
footprint SO20_M (SOIC, 20-Leads, Body 12.8x7.5mm, Pitch 1.27mm, IPC Low Density)
3D model SO20 (20-Pin Plastic Small Outline Integrated Circuit 1.27 mm Pitch)
pins: 1 VDD (power), 2 TIMER (io), 3 OSCIN (in), 4 OSCOUT (out), 5 NMI (in), 6 VPP (power), 7 ~{RESET} (in), 8 PB7/Ain (io), 9 PB6/Ain (io), 10 PB5/Ain (io), 11 PB4/Ain (io), 12 PB3/Ain (io), 13 PB2/Ain (io), 14 PB1/Ain (io), 15 PB0/Ain (io), 16 PA3/20mA SINK (io), 17 PA2/20mA SINK (io), 18 PA1/20mA SINK (io), 19 PA0/20mA SINK (io), 20 VSS (power)

## ST62P10CM3
designator U?
8-Bit FASTROM MCU with A/D Converter, Two Timers, Oscillator Safeguard and Safe Reset, 20-Pin SOIC, Automotive; Published: 26-May-2004; LatestRevisionDate: 13-Apr-2006; LatestRevisionNote: IPC-7351 Footprint Added.; DatasheetVersion: rev3.3, Oct-2003; PackageVersion: Jul-2001; PackageReference: SO20; Publisher: Altium Limited; PackageDescription: 20-Pin Plastic Small Outline Integrated Circuit 1.27 mm Pitch; Code_JEDEC: MS-013-AC; Code_IPC: SOIC127P1030-20; ComponentLink1Description: Manufacturer Link; ComponentLink1URL: http://www.st.com/; ComponentLink2Description: Datasheet; ComponentLink2URL: http://www.st.com/stonline/products/literature/ds/2349/st6210c.pdf
footprint SO20_N (SOIC, 20-Leads, Body 12.8x7.5mm, Pitch 1.27mm, IPC Medium Density)
footprint SO20_L (SOIC, 20-Leads, Body 12.8x7.5mm, Pitch 1.27mm, IPC High Density)
footprint SO20_M (SOIC, 20-Leads, Body 12.8x7.5mm, Pitch 1.27mm, IPC Low Density)
3D model SO20 (20-Pin Plastic Small Outline Integrated Circuit 1.27 mm Pitch)
pins: 1 VDD (power), 2 TIMER (io), 3 OSCIN (in), 4 OSCOUT (out), 5 NMI (in), 6 VPP (power), 7 ~{RESET} (in), 8 PB7/Ain (io), 9 PB6/Ain (io), 10 PB5/Ain (io), 11 PB4/Ain (io), 12 PB3/Ain (io), 13 PB2/Ain (io), 14 PB1/Ain (io), 15 PB0/Ain (io), 16 PA3/20mA SINK (io), 17 PA2/20mA SINK (io), 18 PA1/20mA SINK (io), 19 PA0/20mA SINK (io), 20 VSS (power)

## ST62P10CM6
designator U?
8-Bit FASTROM MCU with A/D Converter, Two Timers, Oscillator Safeguard and Safe Reset, 20-Pin SOIC, Industrial; Published: 26-May-2004; LatestRevisionDate: 13-Apr-2006; LatestRevisionNote: IPC-7351 Footprint Added.; DatasheetVersion: rev3.3, Oct-2003; PackageVersion: Jul-2001; PackageReference: SO20; Publisher: Altium Limited; PackageDescription: 20-Pin Plastic Small Outline Integrated Circuit 1.27 mm Pitch; Code_JEDEC: MS-013-AC; Code_IPC: SOIC127P1030-20; ComponentLink1Description: Manufacturer Link; ComponentLink1URL: http://www.st.com/; ComponentLink2Description: Datasheet; ComponentLink2URL: http://www.st.com/stonline/products/literature/ds/2349/st6210c.pdf
footprint SO20_N (SOIC, 20-Leads, Body 12.8x7.5mm, Pitch 1.27mm, IPC Medium Density)
footprint SO20_L (SOIC, 20-Leads, Body 12.8x7.5mm, Pitch 1.27mm, IPC High Density)
footprint SO20_M (SOIC, 20-Leads, Body 12.8x7.5mm, Pitch 1.27mm, IPC Low Density)
3D model SO20 (20-Pin Plastic Small Outline Integrated Circuit 1.27 mm Pitch)
pins: 1 VDD (power), 2 TIMER (io), 3 OSCIN (in), 4 OSCOUT (out), 5 NMI (in), 6 VPP (power), 7 ~{RESET} (in), 8 PB7/Ain (io), 9 PB6/Ain (io), 10 PB5/Ain (io), 11 PB4/Ain (io), 12 PB3/Ain (io), 13 PB2/Ain (io), 14 PB1/Ain (io), 15 PB0/Ain (io), 16 PA3/20mA SINK (io), 17 PA2/20mA SINK (io), 18 PA1/20mA SINK (io), 19 PA0/20mA SINK (io), 20 VSS (power)

## ST62P15CB1
designator U?
8-Bit FASTROM MCU with A/D Converter, Two Timers, Oscillator Safeguard and Safe Reset, 28-Pin PDIP, Standard; Published: 26-May-2004; LatestRevisionDate: 06-Jun-2005; LatestRevisionNote: Stylized 3D Model Added.; DatasheetVersion: rev3.3, Oct-2003; PackageVersion: Oct-2003; PackageReference: DIP28; Publisher: Altium Limited; PackageDescription: DIP; 28 Leads; Row Spacing 15.24 mm; Pitch 2.54 mm; Code_JEDEC: MS-011-AB; ComponentLink1Description: Manufacturer Link; ComponentLink1URL: http://www.st.com/; ComponentLink2Description: Datasheet; ComponentLink2URL: http://www.st.com/stonline/products/literature/ds/5266/st6215c.pdf
footprint DIP28 (DIP; 28 Leads; Row Spacing 15.24 mm; Pitch 2.54 mm)
3D model DIP28 (DIP; 28 Leads; Row Spacing 15.24 mm; Pitch 2.54 mm)
pins: 1 VDD (power), 2 TIMER (io), 3 OSCIN (in), 4 OSCOUT (out), 5 NMI (in), 6 PC7/Ain (io), 7 PC6/Ain (io), 8 PC5/Ain (io), 9 PC4/Ain (io), 10 VPP (power), 11 ~{RESET} (in), 12 PB7/Ain (io), 13 PB6/Ain (io), 14 PB5/Ain (io), 15 PB4/Ain (io), 16 PB3/Ain (io), 17 PB2/Ain (io), 18 PB1/Ain (io), 19 PB0/Ain (io), 20 PA7/Ain (io), 21 PA6/Ain (io), 22 PA5/Ain (io), 23 PA4/Ain (io), 24 PA3/20mA SINK (io), 25 PA2/20mA SINK (io), 26 PA1/20mA SINK (io), 27 PA0/20mA SINK (io), 28 VSS (power)

## ST62P15CB3
designator U?
8-Bit FASTROM MCU with A/D Converter, Two Timers, Oscillator Safeguard and Safe Reset, 28-Pin PDIP, Automotive; Published: 26-May-2004; LatestRevisionDate: 06-Jun-2005; LatestRevisionNote: Stylized 3D Model Added.; DatasheetVersion: rev3.3, Oct-2003; PackageVersion: Oct-2003; PackageReference: DIP28; Publisher: Altium Limited; PackageDescription: DIP; 28 Leads; Row Spacing 15.24 mm; Pitch 2.54 mm; Code_JEDEC: MS-011-AB; ComponentLink1Description: Manufacturer Link; ComponentLink1URL: http://www.st.com/; ComponentLink2Description: Datasheet; ComponentLink2URL: http://www.st.com/stonline/products/literature/ds/5266/st6215c.pdf
footprint DIP28 (DIP; 28 Leads; Row Spacing 15.24 mm; Pitch 2.54 mm)
3D model DIP28 (DIP; 28 Leads; Row Spacing 15.24 mm; Pitch 2.54 mm)
pins: 1 VDD (power), 2 TIMER (io), 3 OSCIN (in), 4 OSCOUT (out), 5 NMI (in), 6 PC7/Ain (io), 7 PC6/Ain (io), 8 PC5/Ain (io), 9 PC4/Ain (io), 10 VPP (power), 11 ~{RESET} (in), 12 PB7/Ain (io), 13 PB6/Ain (io), 14 PB5/Ain (io), 15 PB4/Ain (io), 16 PB3/Ain (io), 17 PB2/Ain (io), 18 PB1/Ain (io), 19 PB0/Ain (io), 20 PA7/Ain (io), 21 PA6/Ain (io), 22 PA5/Ain (io), 23 PA4/Ain (io), 24 PA3/20mA SINK (io), 25 PA2/20mA SINK (io), 26 PA1/20mA SINK (io), 27 PA0/20mA SINK (io), 28 VSS (power)

## ST62P15CB6
designator U?
8-Bit FASTROM MCU with A/D Converter, Two Timers, Oscillator Safeguard and Safe Reset, 28-Pin PDIP, Industrial; Published: 26-May-2004; LatestRevisionDate: 06-Jun-2005; LatestRevisionNote: Stylized 3D Model Added.; DatasheetVersion: rev3.3, Oct-2003; PackageVersion: Oct-2003; PackageReference: DIP28; Publisher: Altium Limited; PackageDescription: DIP; 28 Leads; Row Spacing 15.24 mm; Pitch 2.54 mm; Code_JEDEC: MS-011-AB; ComponentLink1Description: Manufacturer Link; ComponentLink1URL: http://www.st.com/; ComponentLink2Description: Datasheet; ComponentLink2URL: http://www.st.com/stonline/products/literature/ds/5266/st6215c.pdf
footprint DIP28 (DIP; 28 Leads; Row Spacing 15.24 mm; Pitch 2.54 mm)
3D model DIP28 (DIP; 28 Leads; Row Spacing 15.24 mm; Pitch 2.54 mm)
pins: 1 VDD (power), 2 TIMER (io), 3 OSCIN (in), 4 OSCOUT (out), 5 NMI (in), 6 PC7/Ain (io), 7 PC6/Ain (io), 8 PC5/Ain (io), 9 PC4/Ain (io), 10 VPP (power), 11 ~{RESET} (in), 12 PB7/Ain (io), 13 PB6/Ain (io), 14 PB5/Ain (io), 15 PB4/Ain (io), 16 PB3/Ain (io), 17 PB2/Ain (io), 18 PB1/Ain (io), 19 PB0/Ain (io), 20 PA7/Ain (io), 21 PA6/Ain (io), 22 PA5/Ain (io), 23 PA4/Ain (io), 24 PA3/20mA SINK (io), 25 PA2/20mA SINK (io), 26 PA1/20mA SINK (io), 27 PA0/20mA SINK (io), 28 VSS (power)

## ST62P15CM1
designator U?
8-Bit FASTROM MCU with A/D Converter, Two Timers, Oscillator Safeguard and Safe Reset, 28-Pin SOIC, Standard; Published: 26-May-2004; LatestRevisionDate: 13-Apr-2006; LatestRevisionNote: IPC-7351 Footprint Added.; DatasheetVersion: rev3.3, Oct-2003; PackageVersion: Jul-2001; PackageReference: SO28; Publisher: Altium Limited; PackageDescription: 28-Pin Plastic Small Outline Integrated Circuit 1.27 mm Pitch; ComponentLink1Description: Manufacturer Link; ComponentLink1URL: http://www.st.com/; ComponentLink2Description: Datasheet; ComponentLink2URL: http://www.st.com/stonline/products/literature/ds/5266/st6215c.pdf
footprint SO28_N (SOIC, 28-Leads, Body 17.9x7.5mm, Pitch 1.27mm, IPC Medium Density)
footprint SO28_L (SOIC, 28-Leads, Body 17.9x7.5mm, Pitch 1.27mm, IPC High Density)
footprint SO28_M (SOIC, 28-Leads, Body 17.9x7.5mm, Pitch 1.27mm, IPC Low Density)
3D model SO28 (28-Pin Plastic Small Outline Integrated Circuit 1.27 mm Pitch)
pins: 1 VDD (power), 2 TIMER (io), 3 OSCIN (in), 4 OSCOUT (out), 5 NMI (in), 6 PC7/Ain (io), 7 PC6/Ain (io), 8 PC5/Ain (io), 9 PC4/Ain (io), 10 VPP (power), 11 ~{RESET} (in), 12 PB7/Ain (io), 13 PB6/Ain (io), 14 PB5/Ain (io), 15 PB4/Ain (io), 16 PB3/Ain (io), 17 PB2/Ain (io), 18 PB1/Ain (io), 19 PB0/Ain (io), 20 PA7/Ain (io), 21 PA6/Ain (io), 22 PA5/Ain (io), 23 PA4/Ain (io), 24 PA3/20mA SINK (io), 25 PA2/20mA SINK (io), 26 PA1/20mA SINK (io), 27 PA0/20mA SINK (io), 28 VSS (power)

## ST62P15CM3
designator U?
8-Bit FASTROM MCU with A/D Converter, Two Timers, Oscillator Safeguard and Safe Reset, 28-Pin SOIC, Automotive; Published: 26-May-2004; LatestRevisionDate: 13-Apr-2006; LatestRevisionNote: IPC-7351 Footprint Added.; DatasheetVersion: rev3.3, Oct-2003; PackageVersion: Jul-2001; PackageReference: SO28; Publisher: Altium Limited; PackageDescription: 28-Pin Plastic Small Outline Integrated Circuit 1.27 mm Pitch; ComponentLink1Description: Manufacturer Link; ComponentLink1URL: http://www.st.com/; ComponentLink2Description: Datasheet; ComponentLink2URL: http://www.st.com/stonline/products/literature/ds/5266/st6215c.pdf
footprint SO28_N (SOIC, 28-Leads, Body 17.9x7.5mm, Pitch 1.27mm, IPC Medium Density)
footprint SO28_L (SOIC, 28-Leads, Body 17.9x7.5mm, Pitch 1.27mm, IPC High Density)
footprint SO28_M (SOIC, 28-Leads, Body 17.9x7.5mm, Pitch 1.27mm, IPC Low Density)
3D model SO28 (28-Pin Plastic Small Outline Integrated Circuit 1.27 mm Pitch)
pins: 1 VDD (power), 2 TIMER (io), 3 OSCIN (in), 4 OSCOUT (out), 5 NMI (in), 6 PC7/Ain (io), 7 PC6/Ain (io), 8 PC5/Ain (io), 9 PC4/Ain (io), 10 VPP (power), 11 ~{RESET} (in), 12 PB7/Ain (io), 13 PB6/Ain (io), 14 PB5/Ain (io), 15 PB4/Ain (io), 16 PB3/Ain (io), 17 PB2/Ain (io), 18 PB1/Ain (io), 19 PB0/Ain (io), 20 PA7/Ain (io), 21 PA6/Ain (io), 22 PA5/Ain (io), 23 PA4/Ain (io), 24 PA3/20mA SINK (io), 25 PA2/20mA SINK (io), 26 PA1/20mA SINK (io), 27 PA0/20mA SINK (io), 28 VSS (power)

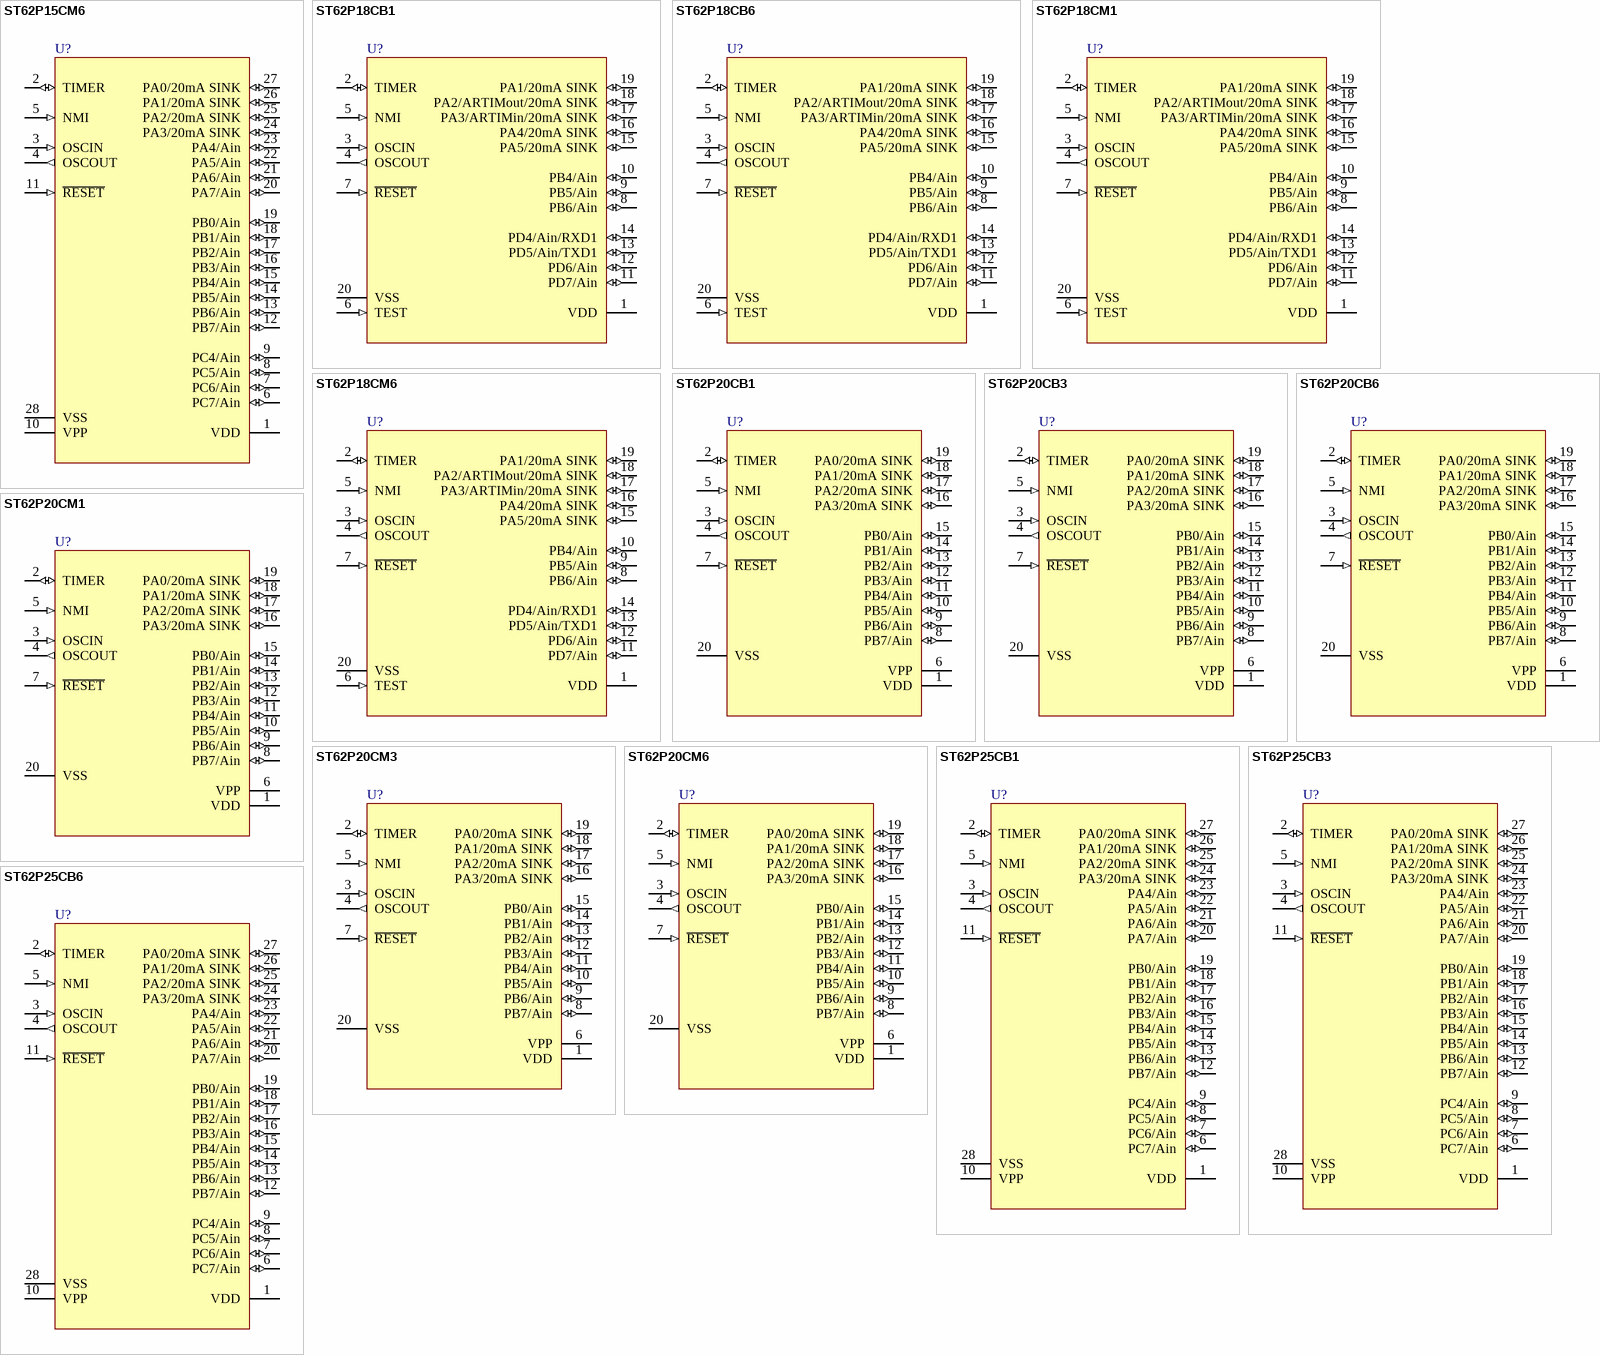
[diagram p8: symbols ST62P15CM6 to ST62P25CB6]

## ST62P15CM6
designator U?
8-Bit FASTROM MCU with A/D Converter, Two Timers, Oscillator Safeguard and Safe Reset, 28-Pin SOIC, Industrial; Published: 26-May-2004; LatestRevisionDate: 13-Apr-2006; LatestRevisionNote: IPC-7351 Footprint Added.; DatasheetVersion: rev3.3, Oct-2003; PackageVersion: Jul-2001; PackageReference: SO28; Publisher: Altium Limited; PackageDescription: 28-Pin Plastic Small Outline Integrated Circuit 1.27 mm Pitch; ComponentLink1Description: Manufacturer Link; ComponentLink1URL: http://www.st.com/; ComponentLink2Description: Datasheet; ComponentLink2URL: http://www.st.com/stonline/products/literature/ds/5266/st6215c.pdf
footprint SO28_N (SOIC, 28-Leads, Body 17.9x7.5mm, Pitch 1.27mm, IPC Medium Density)
footprint SO28_L (SOIC, 28-Leads, Body 17.9x7.5mm, Pitch 1.27mm, IPC High Density)
footprint SO28_M (SOIC, 28-Leads, Body 17.9x7.5mm, Pitch 1.27mm, IPC Low Density)
3D model SO28 (28-Pin Plastic Small Outline Integrated Circuit 1.27 mm Pitch)
pins: 1 VDD (power), 2 TIMER (io), 3 OSCIN (in), 4 OSCOUT (out), 5 NMI (in), 6 PC7/Ain (io), 7 PC6/Ain (io), 8 PC5/Ain (io), 9 PC4/Ain (io), 10 VPP (power), 11 ~{RESET} (in), 12 PB7/Ain (io), 13 PB6/Ain (io), 14 PB5/Ain (io), 15 PB4/Ain (io), 16 PB3/Ain (io), 17 PB2/Ain (io), 18 PB1/Ain (io), 19 PB0/Ain (io), 20 PA7/Ain (io), 21 PA6/Ain (io), 22 PA5/Ain (io), 23 PA4/Ain (io), 24 PA3/20mA SINK (io), 25 PA2/20mA SINK (io), 26 PA1/20mA SINK (io), 27 PA0/20mA SINK (io), 28 VSS (power)

## ST62P18CB1
designator U?
8-Bit FASTROM MCU with A/D Converter, Auto-Reload Timer, UART, OSG, Safe Reset, 20-Pin PDIP, Standard; Published: 26-May-2004; LatestRevisionDate: 06-Jun-2005; LatestRevisionNote: Stylized 3D Model Added.; DatasheetVersion: rev2.6, Jul-2001; PackageVersion: Jul-2003; PackageReference: PDIP20; Publisher: Altium Limited; PackageDescription: DIP; 20 Leads; Row Spacing 7.62 mm; Pitch 2.54 mm; Code_JEDEC: MS-001-AD; ComponentLink1Description: Manufacturer Link; ComponentLink1URL: http://www.st.com/; ComponentLink2Description: Datasheet; ComponentLink2URL: http://www.st.com/stonline/products/literature/ds/5268/st6218c.pdf
footprint PDIP20 (DIP; 20 Leads; Row Spacing 7.62 mm; Pitch 2.54 mm)
3D model PDIP20 (DIP; 20 Leads; Row Spacing 7.62 mm; Pitch 2.54 mm)
pins: 1 VDD (power), 2 TIMER (io), 3 OSCIN (in), 4 OSCOUT (out), 5 NMI (in), 6 TEST (in), 7 ~{RESET} (in), 8 PB6/Ain (io), 9 PB5/Ain (io), 10 PB4/Ain (io), 11 PD7/Ain (io), 12 PD6/Ain (io), 13 PD5/Ain/TXD1 (io), 14 PD4/Ain/RXD1 (io), 15 PA5/20mA SINK (io), 16 PA4/20mA SINK (io), 17 PA3/ARTIMin/20mA SINK (io), 18 PA2/ARTIMout/20mA SINK (io), 19 PA1/20mA SINK (io), 20 VSS (power)

## ST62P18CB6
designator U?
8-Bit FASTROM MCU with A/D Converter, Auto-Reload Timer, UART, OSG, Safe Reset, 20-Pin PDIP, Industrial; Published: 26-May-2004; LatestRevisionDate: 06-Jun-2005; LatestRevisionNote: Stylized 3D Model Added.; DatasheetVersion: rev2.6, Jul-2001; PackageVersion: Jul-2003; PackageReference: PDIP20; Publisher: Altium Limited; PackageDescription: DIP; 20 Leads; Row Spacing 7.62 mm; Pitch 2.54 mm; Code_JEDEC: MS-001-AD; ComponentLink1Description: Manufacturer Link; ComponentLink1URL: http://www.st.com/; ComponentLink2Description: Datasheet; ComponentLink2URL: http://www.st.com/stonline/products/literature/ds/5268/st6218c.pdf
footprint PDIP20 (DIP; 20 Leads; Row Spacing 7.62 mm; Pitch 2.54 mm)
3D model PDIP20 (DIP; 20 Leads; Row Spacing 7.62 mm; Pitch 2.54 mm)
pins: 1 VDD (power), 2 TIMER (io), 3 OSCIN (in), 4 OSCOUT (out), 5 NMI (in), 6 TEST (in), 7 ~{RESET} (in), 8 PB6/Ain (io), 9 PB5/Ain (io), 10 PB4/Ain (io), 11 PD7/Ain (io), 12 PD6/Ain (io), 13 PD5/Ain/TXD1 (io), 14 PD4/Ain/RXD1 (io), 15 PA5/20mA SINK (io), 16 PA4/20mA SINK (io), 17 PA3/ARTIMin/20mA SINK (io), 18 PA2/ARTIMout/20mA SINK (io), 19 PA1/20mA SINK (io), 20 VSS (power)

## ST62P18CM1
designator U?
8-Bit FASTROM MCU with A/D Converter, Auto-Reload Timer, UART, OSG, Safe Reset, 20-Pin SOIC, Standard; Published: 26-May-2004; LatestRevisionDate: 13-Apr-2006; LatestRevisionNote: IPC-7351 Footprint Added.; DatasheetVersion: rev2.6, Jul-2001; PackageVersion: Jul-2001; PackageReference: SO20; Publisher: Altium Limited; PackageDescription: 20-Pin Plastic Small Outline Integrated Circuit 1.27 mm Pitch; Code_JEDEC: MS-013-AC; Code_IPC: SOIC127P1030-20; ComponentLink1Description: Manufacturer Link; ComponentLink1URL: http://www.st.com/; ComponentLink2Description: Datasheet; ComponentLink2URL: http://www.st.com/stonline/products/literature/ds/5268/st6218c.pdf
footprint SO20_N (SOIC, 20-Leads, Body 12.8x7.5mm, Pitch 1.27mm, IPC Medium Density)
footprint SO20_L (SOIC, 20-Leads, Body 12.8x7.5mm, Pitch 1.27mm, IPC High Density)
footprint SO20_M (SOIC, 20-Leads, Body 12.8x7.5mm, Pitch 1.27mm, IPC Low Density)
3D model SO20 (20-Pin Plastic Small Outline Integrated Circuit 1.27 mm Pitch)
pins: 1 VDD (power), 2 TIMER (io), 3 OSCIN (in), 4 OSCOUT (out), 5 NMI (in), 6 TEST (in), 7 ~{RESET} (in), 8 PB6/Ain (io), 9 PB5/Ain (io), 10 PB4/Ain (io), 11 PD7/Ain (io), 12 PD6/Ain (io), 13 PD5/Ain/TXD1 (io), 14 PD4/Ain/RXD1 (io), 15 PA5/20mA SINK (io), 16 PA4/20mA SINK (io), 17 PA3/ARTIMin/20mA SINK (io), 18 PA2/ARTIMout/20mA SINK (io), 19 PA1/20mA SINK (io), 20 VSS (power)

## ST62P18CM6
designator U?
8-Bit FASTROM MCU with A/D Converter, Auto-Reload Timer, UART, OSG, Safe Reset, 20-Pin SOIC, Industrial; Published: 26-May-2004; LatestRevisionDate: 13-Apr-2006; LatestRevisionNote: IPC-7351 Footprint Added.; DatasheetVersion: rev2.6, Jul-2001; PackageVersion: Jul-2001; PackageReference: SO20; Publisher: Altium Limited; PackageDescription: 20-Pin Plastic Small Outline Integrated Circuit 1.27 mm Pitch; Code_JEDEC: MS-013-AC; Code_IPC: SOIC127P1030-20; ComponentLink1Description: Manufacturer Link; ComponentLink1URL: http://www.st.com/; ComponentLink2Description: Datasheet; ComponentLink2URL: http://www.st.com/stonline/products/literature/ds/5268/st6218c.pdf
footprint SO20_N (SOIC, 20-Leads, Body 12.8x7.5mm, Pitch 1.27mm, IPC Medium Density)
footprint SO20_L (SOIC, 20-Leads, Body 12.8x7.5mm, Pitch 1.27mm, IPC High Density)
footprint SO20_M (SOIC, 20-Leads, Body 12.8x7.5mm, Pitch 1.27mm, IPC Low Density)
3D model SO20 (20-Pin Plastic Small Outline Integrated Circuit 1.27 mm Pitch)
pins: 1 VDD (power), 2 TIMER (io), 3 OSCIN (in), 4 OSCOUT (out), 5 NMI (in), 6 TEST (in), 7 ~{RESET} (in), 8 PB6/Ain (io), 9 PB5/Ain (io), 10 PB4/Ain (io), 11 PD7/Ain (io), 12 PD6/Ain (io), 13 PD5/Ain/TXD1 (io), 14 PD4/Ain/RXD1 (io), 15 PA5/20mA SINK (io), 16 PA4/20mA SINK (io), 17 PA3/ARTIMin/20mA SINK (io), 18 PA2/ARTIMout/20mA SINK (io), 19 PA1/20mA SINK (io), 20 VSS (power)

## ST62P20CB1
designator U?
8-Bit FASTROM MCU with A/D Converter, Two Timers, Oscillator Safeguard and Safe Reset, 20-Pin PDIP, Standard; Published: 26-May-2004; LatestRevisionDate: 06-Jun-2005; LatestRevisionNote: Stylized 3D Model Added.; DatasheetVersion: rev3.3, Oct-2003; PackageVersion: Jul-2003; PackageReference: PDIP20; Publisher: Altium Limited; PackageDescription: DIP; 20 Leads; Row Spacing 7.62 mm; Pitch 2.54 mm; Code_JEDEC: MS-001-AD; ComponentLink1Description: Manufacturer Link; ComponentLink1URL: http://www.st.com/; ComponentLink2Description: Datasheet; ComponentLink2URL: http://www.st.com/stonline/products/literature/ds/2349/st6220c.pdf
footprint PDIP20 (DIP; 20 Leads; Row Spacing 7.62 mm; Pitch 2.54 mm)
3D model PDIP20 (DIP; 20 Leads; Row Spacing 7.62 mm; Pitch 2.54 mm)
pins: 1 VDD (power), 2 TIMER (io), 3 OSCIN (in), 4 OSCOUT (out), 5 NMI (in), 6 VPP (power), 7 ~{RESET} (in), 8 PB7/Ain (io), 9 PB6/Ain (io), 10 PB5/Ain (io), 11 PB4/Ain (io), 12 PB3/Ain (io), 13 PB2/Ain (io), 14 PB1/Ain (io), 15 PB0/Ain (io), 16 PA3/20mA SINK (io), 17 PA2/20mA SINK (io), 18 PA1/20mA SINK (io), 19 PA0/20mA SINK (io), 20 VSS (power)